# Altium schematic symbol library LM66200DRLR.SchLib: 1 symbol
Pins are listed as number, name and electrical type; pins without a type are passive.

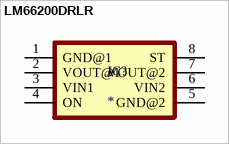
[diagram p0: symbol LM66200DRLR]

## LM66200DRLR
designator IC?
1.6-V to 5.5-V, 40-mâ„¦, 2.5-A, low-IQ, dual ideal diode; MF: Texas Instruments; MP: LM66200DRLR; SnapEDA_Link: https://www.snapeda.com/parts/LM66200DRLR/Texas+Instruments/view-part/?ref=snap; Package: None; Value: *; Check_prices: https://www.snapeda.com/parts/LM66200DRLR/Texas+Instruments/view-part/?ref=eda
footprint SOT8
pins: 1 GND@1, 2 VOUT@1, 3 VIN1, 4 ON, 5 GND@2, 6 VIN2, 7 VOUT@2, 8 ST